# Altium integrated library ADS1113IDGSR.IntLib: 1 symbol
Pins are listed as number, name and electrical type; pins without a type are passive.

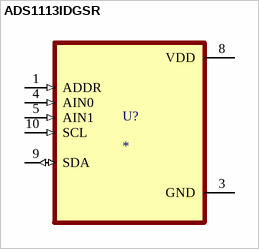
[diagram p0: symbol ADS1113IDGSR]

## ADS1113IDGSR
designator U?
16-Bit 860SPS 1-Ch Delta-Sigma ADC With Oscillator, Voltage Reference, and I2C 10-VSSOP -40 to 125; MF: Texas Instruments; MP: ADS1113IDGSR; Check_prices: https://www.snapeda.com/parts/ADS1113IDGSR/Texas%20Instruments/view-part/559957/?ref=eda; Price: None; SnapEDA_Link: https://www.snapeda.com/parts/ADS1113IDGSR/Texas%20Instruments/view-part/559957/?ref=snap; Purchase-URL: https://pricing.snapeda.com/search/part/ADS1113IDGSR/?ref=eda; Package: VSSOP-10 Texas Instruments; Availability: Warning; Value: *
footprint SOP50P490X110-10N
pins: 1 ADDR (in), 3 GND (power), 4 AIN0 (in), 5 AIN1 (in), 8 VDD (power), 9 SDA (io), 10 SCL (in)